# Altium schematic symbol library LIB_SCH_Main.SchLib: 50 symbols
Pins are listed as number, name and electrical type; pins without a type are passive.

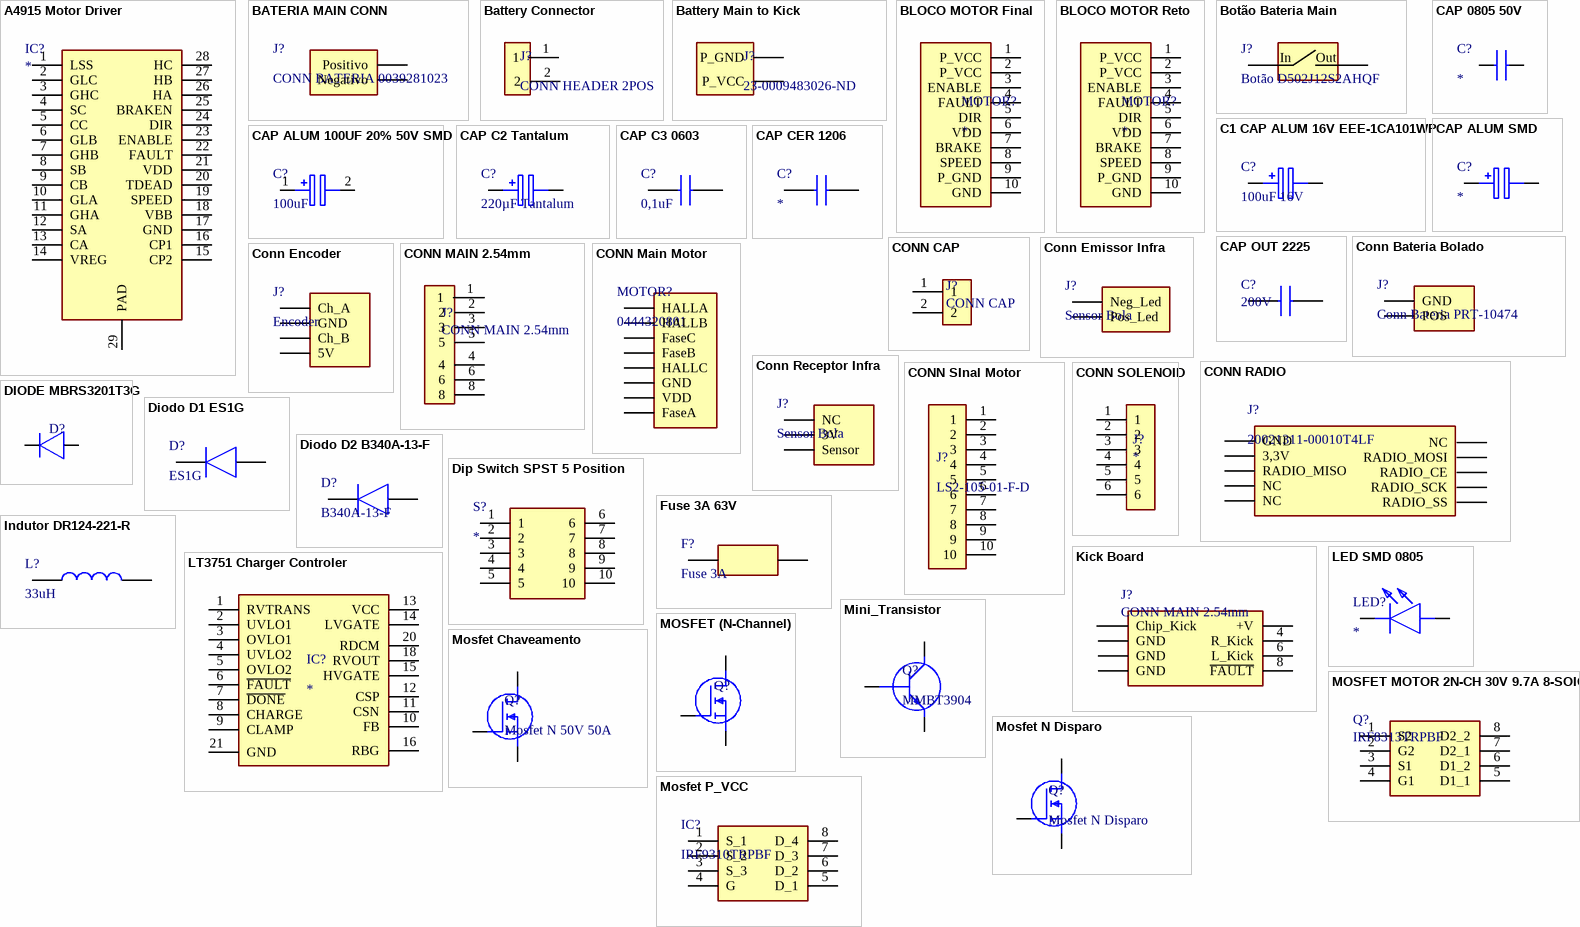
[diagram p0: symbols A4915 Motor Driver to Mosfet P_VCC]

## A4915 Motor Driver
designator IC?
Integrated Circuit / 28-Pin TSSOP / with Exposed Thermal Pad / https://pdf1.alldatasheet.com/datasheet-pdf/view/848035/ALLEGRO/A4915.html; Manufacturer_Name: Allegro Microsystems; Manufacturer_Part_Number: A4915MLPTR-T; Datasheet Link: http://www.allegromicro.com/~/media/Files/Datasheets/A4915-Datasheet.ashx; Height: 1.2mm
footprint A4915 Motor Driver (28-Pin TSSOP  with Exposed Thermal Pad)
pins: 1 LSS, 2 GLC, 3 GHC, 4 SC, 5 CC, 6 GLB, 7 GHB, 8 SB, 9 CB, 10 GLA, 11 GHA, 12 SA, 13 CA, 14 VREG, 15 CP2, 16 CP1, 17 GND, 18 VBB, 19 SPEED, 20 TDEAD, 21 VDD, 22 FAULT, 23 ENABLE, 24 DIR, 25 BRAKEN, 26 HA, 27 HB, 28 HC, 29 PAD

## BATERIA MAIN CONN
designator J?, comment CONN BATERIA 0039281023
Connector Header Through Hole 2 position / 0039281023 / WM3800-ND; Manufacturer_Name: Molex; Datasheet Link: http://www.molex.com/webdocs/datasheets/pdf/en-us//0039281023_PCB_HEADERS.pdf; Height: 13.1mm; Manufacturer_Part_Number: 0039281023; Mouser Part Number: N/A; Mouser Price/Stock: https://www.mouser.com/Search/Refine.aspx?Keyword=N%2FA
footprint MAIN BATERIA (CONN MAIN BATEIRA)
pins: 1 Positivo, 2 Negativo

## Battery Connector
designator J?, comment CONN HEADER 2POS
CONN HEADER R/A 2POS 2.54MM / 22-05-3021 / WM4300-ND; Manufacturer_Name: Molex; Allied_Number: 70190620; Datasheet Link: http://www.molex.com/webdocs/datasheets/pdf/en-us/0022053031_PCB_HEADERS.pdf; Manufacturer_Part_Number: 22-05-3021; Mouser Part Number: 538-22-05-3021; Mouser Price/Stock: https://www.mouser.com/Search/Refine.aspx?Keyword=538-22-05-3021; RS Part Number: 6795448; RS Price/Stock: https://uk.rs-online.com/web/p/products/6795448; Allied Price/Stock: https://www.alliedelec.com/molex-incorporated-22-05-3021/70190620/
footprint Battery Connector (22-05-3021)
pins: 1, 2

## Battery Main to Kick
designator J?, comment 23-0009483026-ND
Manufacturer_Name: Molex; Allied_Number: 70190620; Datasheet Link: http://www.molex.com/webdocs/datasheets/pdf/en-us/0022053031_PCB_HEADERS.pdf; Manufacturer_Part_Number: 22-05-3021; Mouser Part Number: 538-22-05-3021; Mouser Price/Stock: https://www.mouser.com/Search/Refine.aspx?Keyword=538-22-05-3021; RS Part Number: 6795448; RS Price/Stock: https://uk.rs-online.com/web/p/products/6795448; Allied Price/Stock: https://www.alliedelec.com/molex-incorporated-22-05-3021/70190620/
footprint Battery Main to Kick Connector (Da Main até a kick)
pins: 1 P_GND, 2 P_VCC

## BLOCO MOTOR Final
designator MOTOR?
footprint BlocoMotor Final
pins: 1 P_VCC, 2 P_VCC, 3 ENABLE, 4 FAULT, 5 DIR, 6 VDD, 7 BRAKE, 8 SPEED, 9 P_GND, 10 GND

## BLOCO MOTOR Reto
designator MOTOR?
footprint BlocoMotor reto
pins: 1 P_VCC, 2 P_VCC, 3 ENABLE, 4 FAULT, 5 DIR, 6 VDD, 7 BRAKE, 8 SPEED, 9 P_GND, 10 GND

## Botão Bateria Main
designator J?, comment Botão D502J12S2AHQF
Rocker Switch SPST 10A (AC) 125V Panel Mount, Snap-In, Right Angle / D502J12S2AHQF / CKN2058-ND /; Manufacturer_Name: SCHURTER; Manufacturer_Part_Number: 0031.8201; Datasheet Link: http://www.schurter.com.hk/var/schurter/storage/ilcatalogue/files/document/datasheet/en/pdf/typ_OGN.pdf; Mouser Part Number: 693-0031.8201; Mouser Price/Stock: https://www.mouser.com/Search/Refine.aspx?Keyword=693-0031.8201; RS Part Number: 2508764386; RS Price/Stock: http://uk.rs-online.com/web/p/products/2508764386
footprint Botão Bateria Main
pins: 1 In, 2 Out

## C1 CAP ALUM 16V EEE-1CA101WP
designator C?, comment 100uF 16V
100µF 16V Aluminum Electrolytic Capacitors Radial, Can - SMD  1000 Hrs @ 85°C / PCE3880CT-ND / EEE-1CA101WP; Manufacturer_Name: Panasonic; Allied_Number: 70257932; Datasheet Link: https://industrial.panasonic.com/cdbs/www-data/pdf/RDE0000/ABA0000C1145.pdf; Height: 6.1mm; Manufacturer_Part_Number: EEE-1CA101WP; Mouser Part Number: 667-EEE-1CA101WP; Mouser Price/Stock: https://www.mouser.com/Search/Refine.aspx?Keyword=667-EEE-1CA101WP; RS Part Number: 8077884; RS Price/Stock: https://uk.rs-online.com/web/p/products/8077884; Allied Price/Stock: https://www.alliedelec.com/panasonic-eee-1ca101wp/70257932/
footprint C1 CAP ALUM SMD (cap um pouco menor)
pins: 1 +, 2 -

## CAP 0805 50V
designator C?
Capacitor / 08055A101JAT2A; Manufacturer_Name: AVX; Allied_Number: 70474488; Datasheet Link: https://componentsearchengine.com/Datasheets/1/06031A100FAT2A.pdf; Height: 0.94mm; Manufacturer_Part_Number: 08055A101JAT2A; Mouser Part Number: 581-08055A101J; Mouser Price/Stock: https://www.mouser.com/Search/Refine.aspx?Keyword=581-08055A101J; RS Part Number: 1243222; RS Price/Stock: https://uk.rs-online.com/web/p/products/1243222; Allied Price/Stock: https://www.alliedelec.com/avx-08055a101jat2a/70474488/
footprint CAP0805 50v (CAPC2012X94N)
pins: 1, 2

## CAP ALUM 100UF 20% 50V SMD
designator C?, comment 100uF
100µF 50V Aluminum Electrolytic Capacitors Radial, Can - SMD 5000 Hrs @ 105°C / UCD1H101MNL1GS / 493-6388-6-ND; Manufacturer_Name: Nichicon; Allied_Number: 70409359; Datasheet Link: http://www.nichicon.co.jp/english/products/pdfs/e-ucd.pdf; Height: 10.5mm; Manufacturer_Part_Number: UCD1H101MNL1GS; Mouser Part Number: 647-UCD1H101MNL1GS; Mouser Price/Stock: https://www.mouser.com/Search/Refine.aspx?Keyword=647-UCD1H101MNL1GS; RS Part Number: 7151372P; RS Price/Stock: http://uk.rs-online.com/web/p/products/7151372P; Allied Price/Stock: https://www.alliedelec.com/nichicon-ucd1h101mnl1gs/70409359/
footprint CAP ALUM 100UF (CAP ALUM 100UF 20% 50V SMD)
pins: 1 +, 2 -

## CAP ALUM SMD
designator C?
Capacitor Polarised / EEE-FK1E101P / PCE3796TR-ND; Manufacturer_Name: Panasonic; Allied_Number: 70258245; Datasheet Link: https://industrial.panasonic.com/cdbs/www-data/pdf/RDE0000/ABA0000C1181.pdf; Height: 6.5mm; Manufacturer_Part_Number: EEE-FK1E101P; Mouser Part Number: 667-EEE-FK1E101P; Mouser Price/Stock: https://www.mouser.com/Search/Refine.aspx?Keyword=667-EEE-FK1E101P; Allied Price/Stock: https://www.alliedelec.com/panasonic-eee-fk1e101p/70258245/
footprint CAP ALUM SMD (CAPAE830X650N)
pins: 1 +, 2 -

## CAP C2 Tantalum
designator C?, comment 220µF Tantalum
220µF Molded Tantalum Capacitors 6.3V 2312 (6032 Metric) 125mOhm / TPSC227M006R0125 / 478-5239-1-ND /; Manufacturer_Name: Panasonic; Manufacturer_Part_Number: EEE-FK1E101P; Allied_Number: 70258245; Datasheet Link: https://industrial.panasonic.com/cdbs/www-data/pdf/RDE0000/ABA0000C1181.pdf; Height: 6.5mm; Mouser Part Number: 667-EEE-FK1E101P; Mouser Price/Stock: https://www.mouser.com/Search/Refine.aspx?Keyword=667-EEE-FK1E101P; Allied Price/Stock: https://www.alliedelec.com/panasonic-eee-fk1e101p/70258245/
footprint CAP C2 SMD 6032 (2312) (Package 2312 (6032 Metric))
pins: 1 +, 2 -

## CAP C3 0603
designator C?, comment 0,1uF
0.1µF -20%, +80% 50V Ceramic Capacitor Y5V (F) 0603 (1608 Metric) / C1608Y5V1H104Z / 445-1324-1-ND; Manufacturer_Name: TDK; Manufacturer_Part_Number: C3216C0G1H103J060AA; Datasheet Link: https://product.tdk.com/info/en/catalog/datasheets/mlcc_commercial_midvoltage_en.pdf; Height: 0.75mm; Mouser Part Number: 810-C3216C0G1H103J-1; Mouser Price/Stock: https://www.mouser.com/Search/Refine.aspx?Keyword=810-C3216C0G1H103J-1; RS Part Number: 7407467P; RS Price/Stock: http://uk.rs-online.com/web/p/products/7407467P
footprint CAP C3 0603 SMD (Package 0603 (1608 Metric))
pins: 1, 2

## CAP CER 1206
designator C?
Capacitor C3216C0G1H103J060AA; Manufacturer_Name: TDK; Datasheet Link: https://product.tdk.com/info/en/catalog/datasheets/mlcc_commercial_midvoltage_en.pdf; Height: 0.75mm; Manufacturer_Part_Number: C3216C0G1H103J060AA; Mouser Part Number: 810-C3216C0G1H103J-1; Mouser Price/Stock: https://www.mouser.com/Search/Refine.aspx?Keyword=810-C3216C0G1H103J-1; RS Part Number: 7407467P; RS Price/Stock: http://uk.rs-online.com/web/p/products/7407467P
footprint CAPCER1206 (CAPC3317X75N)
pins: 1, 2

## CAP OUT 2225
designator C?, comment 200V
Capacitor / CAP CER 1UF 200V X7R 2225 / 720-1136-1-ND / VJ2225Y105KXCAT; Manufacturer_Name: AVX; Manufacturer_Part_Number: 2225HC103KAZ1A; Datasheet Link: http://datasheets.avx.com/HV-FlexitermMLCC.pdf; Height: 3.4mm; Mouser Part Number: 581-2225HC103KAZ1A; Mouser Price/Stock: https://www.mouser.com/Search/Refine.aspx?Keyword=581-2225HC103KAZ1A
footprint CAP OUT 2225 (CAP CER 200V 2225)
pins: 1, 2

## Conn Bateria Bolado
designator J?, comment Conn Bateria PRT-10474
XT60 CONNECTORS MALE / PRT-10474 / 1568-1816-ND; Manufacturer_Name: SparkFun; Datasheet Link: http://cdn.sparkfun.com/datasheets/Prototyping/xt60.pdf; Height: 15.875mm; Manufacturer_Part_Number: PRT-10474; Mouser Part Number: 474-PRT-10474; Mouser Price/Stock: https://www.mouser.com/Search/Refine.aspx?Keyword=474-PRT-10474
footprint Conn Bateria Bolado (Conn que ja vem com a bateria)
pins: 1 GND (power), 2 POS (power)

## CONN CAP
designator J?
Connector / CONN HEADER VERT 2POS 3.96MM / 0009652028 / WM18823-ND; Manufacturer_Name: Molex; Allied_Number: 70374002; Datasheet Link: https://www.molex.com/webdocs/datasheets/pdf/en-us/0009652028_PCB_HEADERS.pdf; Height: 14.25mm; Manufacturer_Part_Number: 09-65-2028; Mouser Part Number: 538-09-65-2028; Mouser Price/Stock: https://www.mouser.com/Search/Refine.aspx?Keyword=538-09-65-2028; RS Part Number: 6705237P; RS Price/Stock: http://uk.rs-online.com/web/p/products/6705237P; Allied Price/Stock: https://www.alliedelec.com/molex-incorporated-09-65-2028/70374002/
footprint CONN CAP (CONN HEADER VERT 2POS 3.96MM)
pins: 1, 2

## Conn Emissor Infra
designator J?, comment Sensor Bola
Connector Header Through Hole 2 position 0.079" (2.00mm) / CONN HEADER VERT 3POS 2MM / 0353620350 / WM18921-ND; Manufacturer_Name: TE Connectivity; Manufacturer_Part_Number: 292161-3; Allied_Number: 70083930; Datasheet Link: http://www.te.com/commerce/DocumentDelivery/DDEController?Action=showdoc&DocId=Customer+Drawing%7F292161%7FP1%7Fpdf%7FEnglish%7FENG_CD_292161_P1.pdf%7F292161-3; Height: 6.8mm; Mouser Part Number: 571-292161-3; Mouser Price/Stock: https://www.mouser.com/Search/Refine.aspx?Keyword=571-292161-3; RS Part Number: 6801610; RS Price/Stock: https://uk.rs-online.com/web/p/products/6801610; Allied Price/Stock: https://www.alliedelec.com/te-connectivity-292161-3/70083930/
footprint Conn Emisor Infra (CONN HEADER VERT 2POS 2MM)
pins: 1 Neg_Led, 2 Pos_Led

## Conn Encoder
designator J?, comment Encoder
Connector Header Through Hole 4 position 0.079" (2.00mm) / CONN HEADER VERT 3POS 2MM / 0353620350 / WM18921-ND; Manufacturer_Name: TE Connectivity; Manufacturer_Part_Number: 292161-3; Allied_Number: 70083930; Datasheet Link: http://www.te.com/commerce/DocumentDelivery/DDEController?Action=showdoc&DocId=Customer+Drawing%7F292161%7FP1%7Fpdf%7FEnglish%7FENG_CD_292161_P1.pdf%7F292161-3; Height: 6.8mm; Mouser Part Number: 571-292161-3; Mouser Price/Stock: https://www.mouser.com/Search/Refine.aspx?Keyword=571-292161-3; RS Part Number: 6801610; RS Price/Stock: https://uk.rs-online.com/web/p/products/6801610; Allied Price/Stock: https://www.alliedelec.com/te-connectivity-292161-3/70083930/
footprint Conn Encoder (CONN HEADER VERT 4POS 2MM)
pins: 1 Ch_A, 2 GND, 3 Ch_B, 4 5V

## CONN MAIN 2.54mm
designator J?
Connector / CONN HEADER VERT 8POS 2.54MM / M20-9980445 / 952-2122-ND; Manufacturer_Name: FCI; Manufacturer_Part_Number: 20021311-00010T4LF; Datasheet Link: http://portal.fciconnect.com/Comergent//fci/drawing/20021311.pdf; Height: 4.6mm; Mouser Part Number: 649-221311-00010T4LF; Mouser Price/Stock: https://www.mouser.com/Search/Refine.aspx?Keyword=649-221311-00010T4LF
footprint CONN MAIN 2.54mm (CONN HEADER VERT 8POS 2.54MM)
pins: 1, 2, 3, 4, 5, 6, 8

## CONN Main Motor
designator MOTOR?, comment 0444320801
CONN HEADER VERT 8POS 3MM / 0444320801 / Connector Header Through Hole 8 position 0.118" (3.00mm); Manufacturer_Name: Molex; Manufacturer_Part_Number: 0444320802; Datasheet Link: http://static6.arrow.com/aropdfconversion/70af9c395913d6e0132bcfc0bf15a6e7757c94/0444320802_pcb_headers.pdf; Height: 11mm
footprint CONN Main Motor (CONN HEADER VERT 8POS 3MM)
pins: 1 HALLA, 2 HALLB, 3 FaseC, 4 FaseB, 5 HALLC, 6 GND, 7 VDD, 8 FaseA

## CONN RADIO
designator J?, comment 20021311-00010T4LF
CONN RCPT 1.27mm 10POS 0.05 GOLD PCB / 20021311-00010T4LF / 609-3754-ND; Manufacturer_Name: FCI; Datasheet Link: http://portal.fciconnect.com/Comergent//fci/drawing/20021311.pdf; Height: 4.6mm; Manufacturer_Part_Number: 20021311-00010T4LF; Mouser Part Number: 649-221311-00010T4LF; Mouser Price/Stock: https://www.mouser.com/Search/Refine.aspx?Keyword=649-221311-00010T4LF
footprint CONN Radio (CONN RCPT 1.27 mm 10POS 0.05 GOLD PCB)
pins: 1 GND, 2 3,3V, 3 RADIO_MISO, 4 NC, 5 NC, 6 NC, 7 RADIO_MOSI, 8 RADIO_CE, 9 RADIO_SCK, 10 RADIO_SS

## Conn Receptor Infra
designator J?, comment Sensor Bola
Connector Header Through Hole 3 position 0.079" (2.00mm) / CONN HEADER VERT 3POS 2MM / 0353620350 / WM18921-ND; Manufacturer_Name: TE Connectivity; Manufacturer_Part_Number: 292161-3; Allied_Number: 70083930; Datasheet Link: http://www.te.com/commerce/DocumentDelivery/DDEController?Action=showdoc&DocId=Customer+Drawing%7F292161%7FP1%7Fpdf%7FEnglish%7FENG_CD_292161_P1.pdf%7F292161-3; Height: 6.8mm; Mouser Part Number: 571-292161-3; Mouser Price/Stock: https://www.mouser.com/Search/Refine.aspx?Keyword=571-292161-3; RS Part Number: 6801610; RS Price/Stock: https://uk.rs-online.com/web/p/products/6801610; Allied Price/Stock: https://www.alliedelec.com/te-connectivity-292161-3/70083930/
footprint Conn Receptor Infra (CONN HEADER VERT 3POS 2MM)
pins: 1 NC, 2 3V, 3 Sensor

## CONN SInal Motor
designator J?, comment LS2-105-01-F-D
CONN SELF-MATE 10POS VERT GOLD / SAM11451-ND / LS2-105-01-F-D; Manufacturer_Name: FCI; Manufacturer_Part_Number: 10132797-015100LF; Datasheet Link: https://www.amphenol-icc.com/media/wysiwyg/files/drawing/10132797.pdf; Height: 2mm; Mouser Part Number: 649-10132797015100LF; Mouser Price/Stock: https://www.mouser.com/Search/Refine.aspx?Keyword=649-10132797015100LF
footprint CONN SINAL 10POS (CONN Sinal MOTOR RCPT 10POS SMD GOLD)
pins: 1, 2, 3, 4, 5, 6, 7, 8, 9, 10

## CONN SOLENOID
designator J?
Connector / CONN HEADER VERT 6POS 3.96MM / 0026604060 / WM4624-ND; Manufacturer_Name: TE Connectivity; Manufacturer_Part_Number: 640445-6; Allied_Number: 70083693; Datasheet Link: http://www.te.com/commerce/DocumentDelivery/DDEController?Action=srchrtrv&DocNm=640445&DocType=Customer+Drawing&DocLang=English; Height: 11.049mm; Mouser Part Number: 571-6404456; Mouser Price/Stock: https://www.mouser.com/Search/Refine.aspx?Keyword=571-6404456; RS Part Number: 1789596P; RS Price/Stock: http://uk.rs-online.com/web/p/products/1789596P; Allied Price/Stock: https://www.alliedelec.com/te-connectivity-640445-6/70083693/
footprint CONN SOLENOID (SHDR6W183P0X396_1X6_2377X762X1105P)
pins: 1, 2, 3, 4, 5, 6

## DIODE MBRS3201T3G
designator D?  (value not drawn)
Diode / MBRS3201T3G; Manufacturer_Name: ON Semiconductor; Allied_Number: 70339717; Datasheet Link: http://www.onsemi.com/pub/Collateral/MBRS3201T3-D.PDF; Height: 2.56mm; Manufacturer_Part_Number: MBRS3201T3G; Mouser Part Number: 863-MBRS3201T3G; Mouser Price/Stock: https://www.mouser.com/Search/Refine.aspx?Keyword=863-MBRS3201T3G; RS Part Number: 7925640P; RS Price/Stock: http://uk.rs-online.com/web/p/products/7925640P; Allied Price/Stock: http://www.alliedelec.com/on-semiconductor-mbrs3201t3g/70339717/
footprint DIODE MBRS3201T (Diode)
pins: 1 K, 2 A

## Diodo D1 ES1G
designator D?, comment ES1G
Diode Standard 400V 1A Surface Mount SMA (DO-214AC) / S1GFSCT-ND; Manufacturer_Name: Diodes Inc.; Datasheet Link: https://www.diodes.com/assets/Datasheets/ds14001.pdf; Height: 2.4mm; Manufacturer_Part_Number: ES1G; Mouser Part Number: N/A; Mouser Price/Stock: https://www.mouser.com/Search/ProductDetail.aspx?qs=T8kGKSMx1V6viEjwVgaU9A%3d%3d
footprint Diodo D1, D2 (Package DO-214AC, SMA)
pins: 1 K, 2 A

## Diodo D2 B340A-13-F
designator D?, comment B340A-13-F
Diode Schottky 40V 3A Surface Mount SMA / B340A-FDITR-ND / B340A-13-F; Manufacturer_Name: Diodes Inc.; Manufacturer_Part_Number: ES1G; Datasheet Link: https://www.diodes.com/assets/Datasheets/ds14001.pdf; Height: 2.4mm; Mouser Part Number: N/A; Mouser Price/Stock: https://www.mouser.com/Search/ProductDetail.aspx?qs=T8kGKSMx1V6viEjwVgaU9A%3d%3d
footprint Diodo D1, D2 (Package DO-214AC, SMA)
pins: 1 K, 2 A

## Dip Switch SPST 5 Position
designator S?
CT2065-ND / 206-5 / Dip Switch SPST 5 Position Through Hole Slide (Standard) Actuator 50mA 24VDC; Manufacturer_Name: TE Connectivity; Manufacturer_Part_Number: 1825002-9; Datasheet Link: http://uk.rs-online.com/web/p/products/7182102P; Height: 4.81mm; RS Part Number: 7182102P; RS Price/Stock: http://uk.rs-online.com/web/p/products/7182102P
footprint Dip Switch SPST 5 Position
pins: 1, 2, 3, 4, 5, 6, 7, 8, 9, 10

## Fuse 3A 63V
designator F?, comment Fuse 3A
Fuse / FUSE 3.0A 63VAC/DC SLOW 1206 / 507-1896-1-ND / 0685T3000-01; Manufacturer_Name: LITTELFUSE; Manufacturer_Part_Number: 0466001.NRHF; Datasheet Link: http://www.mouser.com/datasheet/2/240/Littelfuse_Fuse_466_Datasheet.pdf-1317335.pdf; Height: 0.66mm; Mouser Part Number: 576-0466001.NRHF; Mouser Price/Stock: https://www.mouser.com/Search/Refine.aspx?Keyword=576-0466001.NRHF
footprint Fuse 3A 63V (FUSC3215X66N)
pins: 1, 2

## Indutor DR124-221-R
designator L?, comment 33uH
33µH Shielded Wirewound Inductor 2.6A 97mOhm Max Nonstandard / DR124-330-R / 513-1435-1-ND; Manufacturer_Name: Cooper Bussmann; Manufacturer_Part_Number: DR124-221-R; Datasheet Link: http://www.cooperindustries.com/content/dam/public/bussmann/Electronics/Resources/product-datasheets/Bus_Elx_DS_PM-4141_DR124.pdf; RS Part Number: 7700915; RS Price/Stock: https://uk.rs-online.com/web/p/products/7700915
footprint Indutor DR124-330-R (33uH)
pins: 1, 2

## Kick Board
designator J?, comment CONN MAIN 2.54mm
Connector / CONN HEADER VERT 8POS 2.54MM / M20-9980445 / 952-2122-ND; Manufacturer_Name: FCI; Manufacturer_Part_Number: 20021311-00010T4LF; Datasheet Link: http://portal.fciconnect.com/Comergent//fci/drawing/20021311.pdf; Height: 4.6mm; Mouser Part Number: 649-221311-00010T4LF; Mouser Price/Stock: https://www.mouser.com/Search/Refine.aspx?Keyword=649-221311-00010T4LF
footprint Kick Board
pins: 1 Chip_Kick, 2 +V, 3 GND, 4 R_Kick, 5 GND, 6 L_Kick, 7 GND, 8 ~{FAULT}

## LED SMD 0805
designator LED?
LED / LED Indication - Discrete 2V 0805 (2012 Metric) / LTST-C170KRKT / 160-1415-1-ND; Manufacturer_Name: Lite-On; Datasheet Link: https://componentsearchengine.com/Datasheets/1/LTST-C170KRKT.pdf; Height: 1.2mm; Manufacturer_Part_Number: LTST-C170KRKT; Mouser Part Number: 859-LTST-C170KRKT; Mouser Price/Stock: https://www.mouser.com/Search/Refine.aspx?Keyword=859-LTST-C170KRKT; RS Part Number: 6920916P; RS Price/Stock: http://uk.rs-online.com/web/p/products/6920916P
footprint LED SMD (LED Indication - Discrete 2V 0805 (2012 Metric))
pins: 1 K, 2 A

## LT3751 Charger Controler
designator IC?
Integrated Circuit; Manufacturer_Name: Linear Technology; Manufacturer_Part_Number: LT3751EFEPBF
footprint LT3751 Charger Controler
pins: 1 RVTRANS, 2 UVLO1, 3 OVLO1, 4 UVLO2, 5 OVLO2, 6 ~{FAULT}, 7 ~{DONE}, 8 CHARGE, 9 CLAMP, 10 FB, 11 CSN, 12 CSP, 13 VCC, 14 LVGATE, 15 HVGATE, 16 RBG, 17 NC hidden, 18 RVOUT, 19 NC hidden, 20 RDCM, 21 GND

## Mini_Transistor
designator Q?, comment MMBT3904
Bipolar (BJT) Transistor NPN 40V 200mA 300MHz 350mW Surface Mount SOT-23-3 / MMBT3904 / MMBT3904FSCT-ND; Manufacturer_Name: ON Semiconductor; Datasheet Link: https://www.fairchildsemi.com/datasheets/MM/MMBT3904.pdf; Height: 0.93mm; Manufacturer_Part_Number: MMBT3904; Mouser Part Number: 512-MMBT3904; Mouser Price/Stock: https://www.mouser.com/Search/Refine.aspx?Keyword=512-MMBT3904; RS Part Number: 7390303P; RS Price/Stock: http://uk.rs-online.com/web/p/products/7390303P
footprint Mini Transistor (MMBT3904)
pins: 1 B, 2 E, 3 C

## MOSFET (N-Channel)
designator Q?, comment IXFQ94N30P3  (value not drawn)
MOSFET N-CH 300V 94A TO-3P / IXFQ94N30P3; Manufacturer_Name: Infineon; Manufacturer_Part_Number: IRFP250NPBF; Allied_Number: 70017035; Datasheet Link: http://www.irf.com/product-info/datasheets/data/irfp250npbf.pdf; Height: 5.3mm; Mouser Part Number: 942-IRFP250NPBF; Mouser Price/Stock: https://www.mouser.com/Search/Refine.aspx?Keyword=942-IRFP250NPBF; RS Part Number: 5410042P; RS Price/Stock: http://uk.rs-online.com/web/p/products/5410042P; Allied Price/Stock: https://www.alliedelec.com/infineon-irfp250npbf/70017035/
footprint MOSFET (N-Channel) (MOSFET N-CH 300V 94A TO-3P)
pins: 1 G, 2 D, 3 S

## Mosfet Chaveamento
designator Q?, comment Mosfet N 50V 50A
MOSFET (N-Channel) / N-Channel 50V 50A (Tc) 75W (Tc) Surface Mount TO-252AA / SQD50N05-11L_GE3 / SQD50N05-11L_GE3CT-ND; Manufacturer_Name: Alpha & Omega Semiconductors; Manufacturer_Part_Number: AOD4189; Datasheet Link: http://aosmd.com/res/data_sheets/AOD4189.pdf; Height: 2mm
footprint Mosfet Chaveamento (Mosfet-N 50V 50A)
pins: 1 G, 2 D, 3 S

## MOSFET MOTOR 2N-CH 30V 9.7A 8-SOIC
designator Q?, comment IRF8313TRPBF
Mosfet Array 2 N-Channel (Dual) 30V 9.7A 2W Surface Mount 8-SO / IRF8313TRPBFTR-ND; Manufacturer_Name: Infineon; Allied_Number: 70018020; Datasheet Link: https://www.infineon.com/dgdl/irf8313pbf.pdf?fileId=5546d462533600a40153560d38521d63; Height: 1.75mm; Manufacturer_Part_Number: IRF8313TRPBF; Mouser Part Number: 942-IRF8313TRPBF; Mouser Price/Stock: https://www.mouser.com/Search/Refine.aspx?Keyword=942-IRF8313TRPBF; RS Part Number: 8273903; RS Price/Stock: https://uk.rs-online.com/web/p/products/8273903; Allied Price/Stock: https://www.alliedelec.com/infineon-irf8313trpbf/70018020/
footprint MOSFET MOTOR 2N-CH 30V 9.7A 8-SOIC
pins: 1 S2, 2 G2, 3 S1, 4 G1, 5 D1_1, 6 D1_2, 7 D2_1, 8 D2_2

## Mosfet N Disparo
designator Q?
MOSFET (N-Channel) / N-Channel 300V 56A (Tc) 320W (Tc) Surface Mount TO-263AA / IXFA56N30X3-ND / 300V/56A ULTRA JUNCTION X3-CLASS; Manufacturer_Name: ON Semiconductor; Manufacturer_Part_Number: BBS3002-TL-1E; Datasheet Link: https://www.onsemi.com/pub/Collateral/BBS3002-D.PDF; Height: 4.83mm; Mouser Part Number: 863-BBS3002-TL-1E; Mouser Price/Stock: https://www.mouser.com/Search/Refine.aspx?Keyword=863-BBS3002-TL-1E
footprint Mosfet Disparo 2 (Mosfet N Disparo)
pins: 1 G, 2 D, 3 S

## Mosfet P_VCC
designator IC?, comment IRF9310TRPBF
MOSFET P-CH 30V 20A 8-SOIC / P-Channel 30V 20A (Tc) 2.5W (Ta) Surface Mount 8-SO / IRF9310TRPBF / IRF9310TRPBFTR-ND; Manufacturer_Name: Infineon; Manufacturer_Part_Number: IRF9310PBF; Allied_Number: 70019233; Datasheet Link: http://www.farnell.com/datasheets/2040382.pdf; Height: 1.75mm; Mouser Part Number: 942-IRF9310PBF; Mouser Price/Stock: https://www.mouser.com/Search/Refine.aspx?Keyword=942-IRF9310PBF; RS Part Number: 7259234P; RS Price/Stock: http://uk.rs-online.com/web/p/products/7259234P; Allied Price/Stock: https://www.alliedelec.com/infineon-irf9310pbf/70019233/
footprint Mosfet P_VCC (MOSFET P-CH 30V 20A 8-SOIC)
pins: 1 S_1, 2 S_2, 3 S_3, 4 G, 5 D_1, 6 D_2, 7 D_3, 8 D_4

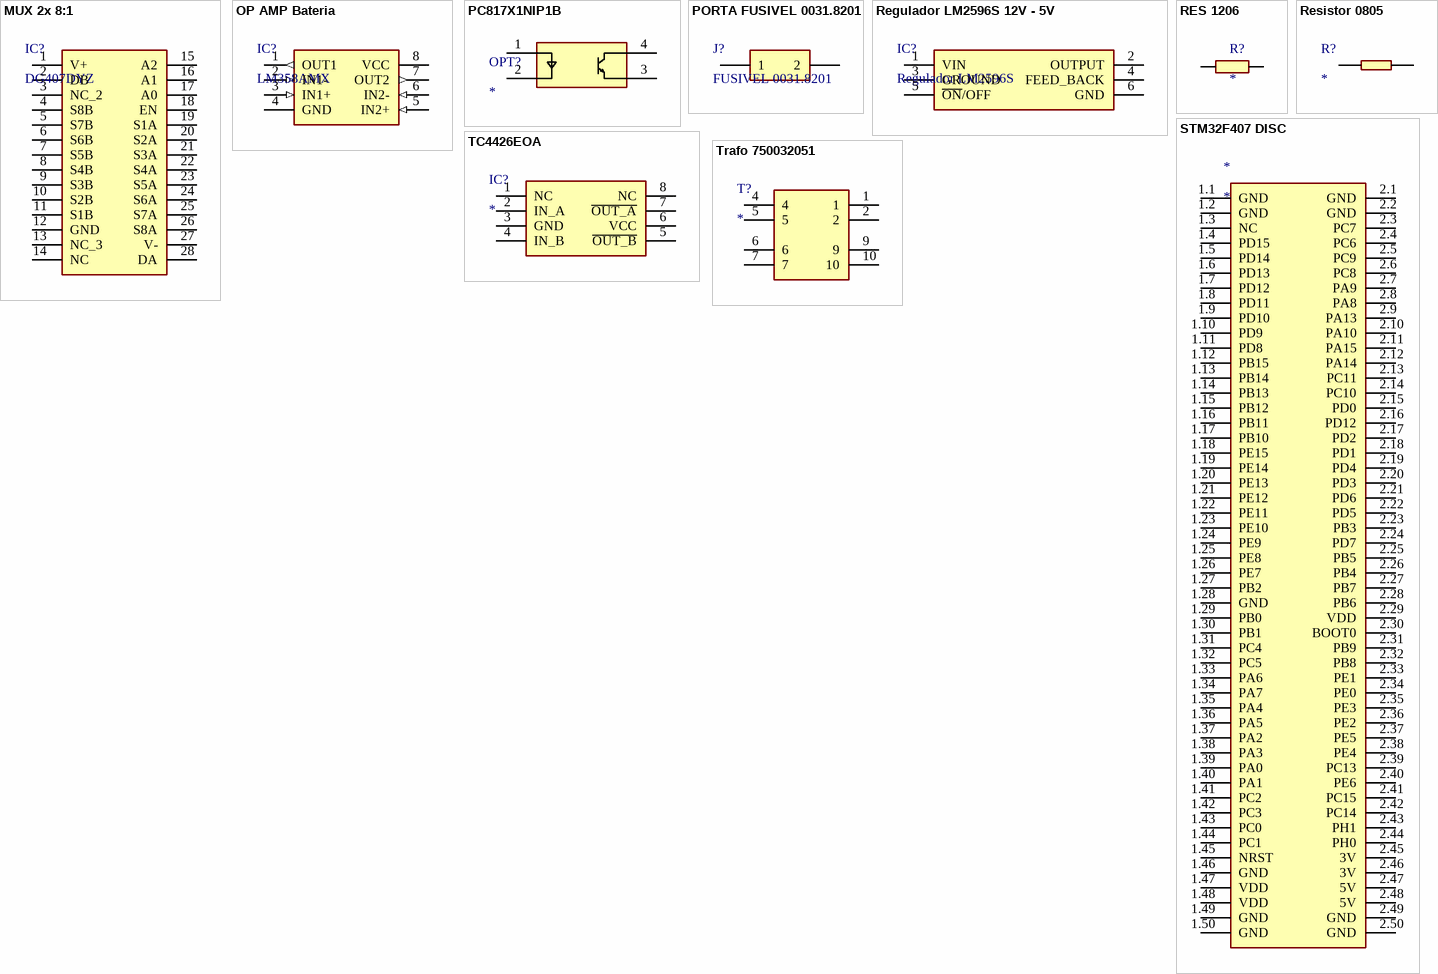
[diagram p1: symbols MUX 2x 8:1 to Trafo 750032051]

## MUX 2x 8:1
designator IC?, comment DG407DYZ
IC MULTIPLEXER DUAL 8X1 28SOIC / 2 Circuit IC Switch 8:1 100Ohm 28-SOIC / DG407DYZ /; Manufacturer_Name: Intersil; Description: Single 16-Channel/Differential 8-Channel CMOS Analog Multiplexers; Manufacturer_Part_Number: DG407DYZ; Mouser Part Number: 968-DG407DYZ; Mouser Price/Stock: http://www.mouser.com/Search/ProductDetail.aspx?qs=cbl4%252bYHJGOHwHxaVU1fONg%3d%3d
footprint MUX 2x 8:1 (DG407DYZ)
pins: 1 V+, 2 DB, 3 NC_2, 4 S8B, 5 S7B, 6 S6B, 7 S5B, 8 S4B, 9 S3B, 10 S2B, 11 S1B, 12 GND, 13 NC_3, 14 NC, 15 A2, 16 A1, 17 A0, 18 EN, 19 S1A, 20 S2A, 21 S3A, 22 S4A, 23 S5A, 24 S6A, 25 S7A, 26 S8A, 27 V-, 28 DA

## OP AMP Bateria
designator IC?, comment LM358AMX
IC OPAMP GP 2 CIRCUIT 8SOIC / General Purpose Amplifier 2 Circuit  8-SOIC / LM358AMXFSCT-ND / LM358AMX; Manufacturer_Name: ON Semiconductor; Description: LM358AMX; Datasheet Link: http://docs-emea.rs-online.com/webdocs/10c0/0900766b810c0a50.pdf; Height: 1.75mm; Manufacturer_Part_Number: LM358AMX; Mouser Part Number: 512-LM358AMX; Mouser Price/Stock: https://www.mouser.com/Search/Refine.aspx?Keyword=512-LM358AMX; RS Part Number: 7599399P; RS Price/Stock: http://uk.rs-online.com/web/p/products/7599399P
footprint OP AMP Bateria (Medir nivel da bateria)
pins: 1 OUT1 (out), 2 IN1- (in), 3 IN1+ (in), 4 GND (power), 5 IN2+ (in), 6 IN2- (in), 7 OUT2 (out), 8 VCC (power)

## PC817X1NIP1B
designator OPT?
Integrated Circuit; Manufacturer_Name: Sharp Microelectronics; Manufacturer_Part_Number: PC817X1NIP1B; Datasheet Link: https://cdn.sharpsde.com/fileadmin/products/Optoelectronics/Isolation%20Devices/Specs%20Photocoupler/PC817XxNIP1B_12Oct16_Spec_ED-16P011.pdf; Height: 4.2mm; Mouser Part Number: 852-PC817X1NIP1B; Mouser Price/Stock: https://www.mouser.com/Search/Refine.aspx?Keyword=852-PC817X1NIP1B
footprint SOP254_Opto_PC817 (PC817X1NIP1B)
pins: 1 ANODE, 2 CATHODE, 3 EMITTER, 4 COLLECTOR

## PORTA FUSIVEL 0031.8201
designator J?, comment FUSIVEL 0031.8201
Fuse Block 10A 500V 1 Circuit Cartridge Through Hole / 486-1258-ND / 0031.8201; Manufacturer_Name: SCHURTER; Datasheet Link: http://www.schurter.com.hk/var/schurter/storage/ilcatalogue/files/document/datasheet/en/pdf/typ_OGN.pdf; Manufacturer_Part_Number: 0031.8201; Mouser Part Number: 693-0031.8201; Mouser Price/Stock: https://www.mouser.com/Search/Refine.aspx?Keyword=693-0031.8201; RS Part Number: 2508764386; RS Price/Stock: http://uk.rs-online.com/web/p/products/2508764386
footprint PORTA FUSIVEL (Fuse Block 10A 500V)
pins: 1, 2

## Regulador LM2596S 12V - 5V
designator IC?, comment Regulador LM2596S
Buck Switching Regulator IC Positive Adjustable 1.2V 1 Output 3A TO-263-6, D²Pak (5 Leads + Tab), TO-263BA / LM2596S-ADJ; Manufacturer_Name: National Electronics; Manufacturer_Part_Number: LM2596S-5.0/TR; Datasheet Link: https://www.jameco.com/Jameco/Products/ProdDS/895246.pdf; Height: 4.65mm
footprint LM2596S50TR
pins: 1 VIN, 2 OUTPUT, 3 GROUND, 4 FEED_BACK, 5 ~{ON}/OFF, 6 GND

## RES 1206
designator R?
Resistor CR1206-FW-1504ELF; Manufacturer_Name: Bourns; Datasheet Link: http://componentsearchengine.com/Datasheets/1/CR1206-FW-1504ELF.pdf; Height: 0.75mm; Manufacturer_Part_Number: CR1206-FW-1504ELF; Mouser Part Number: 652-CR1206FW1504ELF; Mouser Price/Stock: https://www.mouser.com/Search/Refine.aspx?Keyword=652-CR1206FW1504ELF
footprint Res 1206 (RESC3216X75N)
pins: 1, 2

## Resistor 0805
designator R?
Resistor; Manufacturer_Name: TE Connectivity; Manufacturer_Part_Number: CPF0805B105RE1; Datasheet Link: http://docs-europe.electrocomponents.com/webdocs/13d1/0900766b813d116f.pdf; Height: 0.65mm; Mouser Part Number: 279-CPF0805B105RE1; Mouser Price/Stock: https://www.mouser.com/Search/Refine.aspx?Keyword=279-CPF0805B105RE1; RS Part Number: 1239398; RS Price/Stock: http://uk.rs-online.com/web/p/products/1239398
footprint RES 0805 (RESC2012X65N)
pins: 1, 2

## STM32F407 DISC
designator *
footprint STM32F407 DISC
pins: 1.1 GND, 1.2 GND, 1.3 NC, 1.4 PD15, 1.5 PD14, 1.6 PD13, 1.7 PD12, 1.8 PD11, 1.9 PD10, 1.10 PD9, 1.11 PD8, 1.12 PB15, 1.13 PB14, 1.14 PB13, 1.15 PB12, 1.16 PB11, 1.17 PB10, 1.18 PE15, 1.19 PE14, 1.20 PE13, 1.21 PE12, 1.22 PE11, 1.23 PE10, 1.24 PE9, 1.25 PE8, 1.26 PE7, 1.27 PB2, 1.28 GND, 1.29 PB0, 1.30 PB1, 1.31 PC4, 1.32 PC5, 1.33 PA6, 1.34 PA7, 1.35 PA4, 1.36 PA5, 1.37 PA2, 1.38 PA3, 1.39 PA0, 1.40 PA1, 1.41 PC2, 1.42 PC3, 1.43 PC0, 1.44 PC1, 1.45 NRST, 1.46 GND, 1.47 VDD, 1.48 VDD, 1.49 GND, 1.50 GND, 2.1 GND, 2.2 GND, 2.3 PC7, 2.4 PC6, 2.5 PC9, 2.6 PC8, 2.7 PA9, 2.8 PA8, 2.9 PA13, 2.10 PA10, 2.11 PA15, 2.12 PA14, 2.13 PC11, 2.14 PC10, 2.15 PD0, 2.16 PD12, 2.17 PD2, 2.18 PD1, 2.19 PD4, 2.20 PD3, 2.21 PD6, 2.22 PD5, 2.23 PB3, 2.24 PD7, 2.25 PB5, 2.26 PB4, 2.27 PB7, 2.28 PB6, 2.29 VDD, 2.30 BOOT0, 2.31 PB9, 2.32 PB8, 2.33 PE1, 2.34 PE0, 2.35 PE3, 2.36 PE2, 2.37 PE5, 2.38 PE4, 2.39 PC13, 2.40 PE6, 2.41 PC15, 2.42 PC14, 2.43 PH1, 2.44 PH0, 2.45 3V, 2.46 3V, 2.47 5V, 2.48 5V, 2.49 GND, 2.50 GND

## TC4426EOA
designator IC?
Integrated Circuit; Manufacturer_Name: Microchip; Manufacturer_Part_Number: TC4426EOA; Allied_Number: 70046935; Datasheet Link: http://ww1.microchip.com/downloads/en/DeviceDoc/20001422G.pdf; Height: 1.75mm; Mouser Part Number: 579-TC4426EOA; Mouser Price/Stock: https://www.mouser.com/Search/Refine.aspx?Keyword=579-TC4426EOA; RS Part Number: 6684345; RS Price/Stock: https://uk.rs-online.com/web/p/products/6684345; Allied Price/Stock: https://www.alliedelec.com/microchiptechnologyinc-tc4426eoa/70046935/
footprint SOIC127_TC4426 - duplicate (TC4426)
pins: 1 NC, 2 IN_A, 3 GND, 4 IN_B, 5 ~{OUT_B}, 6 VCC, 7 ~{OUT_A}, 8 NC

## Trafo 750032051
designator T?
Transformer; Manufacturer_Name: Wurth Elektronik; Manufacturer_Part_Number: 750032051; Mouser Part Number: N/A; Mouser Price/Stock: https://www.mouser.com/Search/Refine.aspx?Keyword=N%2FA
footprint Trafo Flyback (750032051)
pins: 1, 2, 3 hidden, 4, 5, 6, 7, 8 hidden, 9, 10